# Altium footprint library Buttons.PcbLib: 19 footprints (part 2 of 2)
Each footprint in its own frame and in the unit in brackets; x right, y up, seen from the top. Pads: shape width x height; smd on the part's side, far side on the other; paste and mask are expansions set on the pad; w line width, h text height; cw(c..) or ccw(c..) is an arc to the next point about the centre after c.
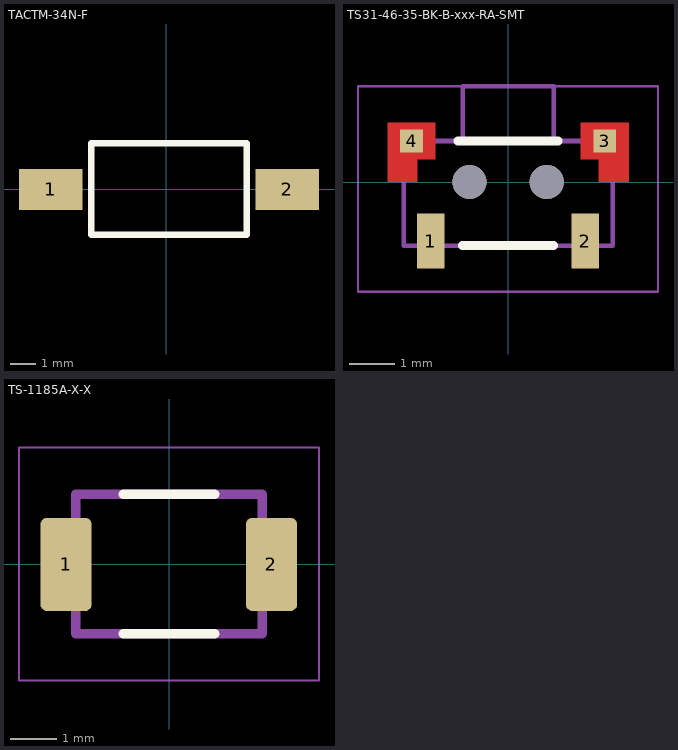
[diagram p1: the footprints below, top view; thin cyan lines are the x and y axes]

## TACTM-34N-F [mm]
height 5
pads (2):
  rect 2.5x1.6 smd: 1(-4.545,0) 2(4.778,0)
Top Overlay:
  lines w0.254: -2.947,-1.778 -2.947,1.816 3.175,1.816 3.175,-1.778 -2.947,-1.778
3D body "dtsm-32n.step": height 5.5, standoff 0, extent -3.875,-1.775 4.125,1.725

## TS31-46-35-BK-B-xxx-RA-SMT [mm] "SMD, Right Angle With Bracket SMD,4.8x2mm"
height 2
pads (6):
  rect 0.6x1.2 smd paste-2539.97 mask+0.09: 1(-1.698,-1.294) 2(1.702,-1.294)
  rect 0.5x0.5 smd paste-2539.97 mask+0: 3(2.127,0.906) 4(-2.123,0.906)
  round 0.75 hole 0.75 unplated: ""(-0.848,0.006) ""(0.852,0.006)
Top Layer:
  region: 2.002,0.506 1.602,0.506 1.602,1.306 2.652,1.306 2.652,0.006 2.002,0.006
  region: -2.648,1.306 -1.598,1.306 -1.598,0.506 -1.998,0.506 -1.998,0.006 -2.648,0.006
Top Overlay:
  lines w0.2: -1.098,0.906 1.102,0.906 ; -0.998,-1.394 1.002,-1.394
Top Paste:
  region: 2.002,0.506 1.602,0.506 1.602,1.306 2.652,1.306 2.652,0.006 2.002,0.006
  region: -2.648,1.306 -1.598,1.306 -1.598,0.506 -1.998,0.506 -1.998,0.006 -2.648,0.006
Top Solder:
  region: 1.902,0.406 1.502,0.406 1.502,1.406 2.752,1.406 2.752,-0.094 1.902,-0.094
  region: -2.748,1.406 -1.498,1.406 -1.498,0.406 -1.898,0.406 -1.898,-0.094 -2.748,-0.094
Mechanical 13:
  lines w0.1: -0.998,0.906 -2.298,0.906 -2.298,-1.394 2.302,-1.394 2.302,0.906 1.002,0.906 ; -0.998,0.906 -0.998,2.106 1.002,2.106 1.002,0.906 ; -0.998,0.906 1.002,0.906
Mechanical 15:
  lines w0.05: -3.3,-2.41 3.3,-2.41 3.3,2.111 -3.3,2.111 -3.3,-2.41
3D body "Same_Sky_TS31-46-35-BK-B-160-RA-SMT-TR.step": height 1.85, standoff -0.35, extent -2.3,-1.588 2.3,2.1

## TS-1185A-X-X [mm] "Tact Button; 2 pins; 4x3x2.5mm"
height 2.5
pads (2):
  rrect25% 1.1x2 smd: 1(-2.21,0) 2(2.2,0)
Top Overlay:
  lines w0.2: -0.98,-1.49 0.98,-1.49 ; -0.98,1.51 0.98,1.51
Mechanical 13:
  lines w0.2: -2,-1.49 -2,1.51 2,1.51 2,-1.49 -2,-1.49
Mechanical 15:
  lines w0.05: -3.22,-2.49 3.22,-2.49 3.22,2.51 -3.22,2.51 -3.22,-2.49
3D body "xb-2_0h-a.stp": height 2.01, standoff 0.01, extent -2.15,-1.46 2.15,1.49